# Altium schematic symbol library BSR19A-SOT23.SchLib: 1 symbol
Pins are listed as number, name and electrical type; pins without a type are passive.

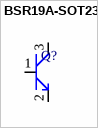
[diagram p0: symbol BSR19A-SOT23]

## BSR19A-SOT23
designator Q?  (value not drawn)
pins: 1 In, 2 In, 3 In